# Altium schematic symbol library SCH - LOGIC - NEXPERIA 74LVC2G08.SchLib: 1 symbol
Pins are listed as number, name and electrical type; pins without a type are passive.

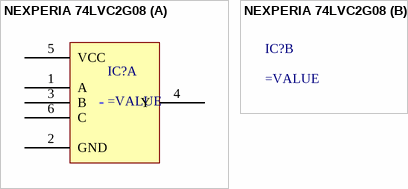
[diagram p0: symbol NEXPERIA 74LVC2G08]

## NEXPERIA 74LVC2G08
designator IC?
part A pins: 1 A, 2 GND, 3 B, 4 Y, 5 VCC, 6 C
1 alternate drawing of the same symbol